# EAGLE library part TINY28* (library Atmel_AVR8)
MICROCONTROLLER 1.8 V 2 Kbytes FLASH
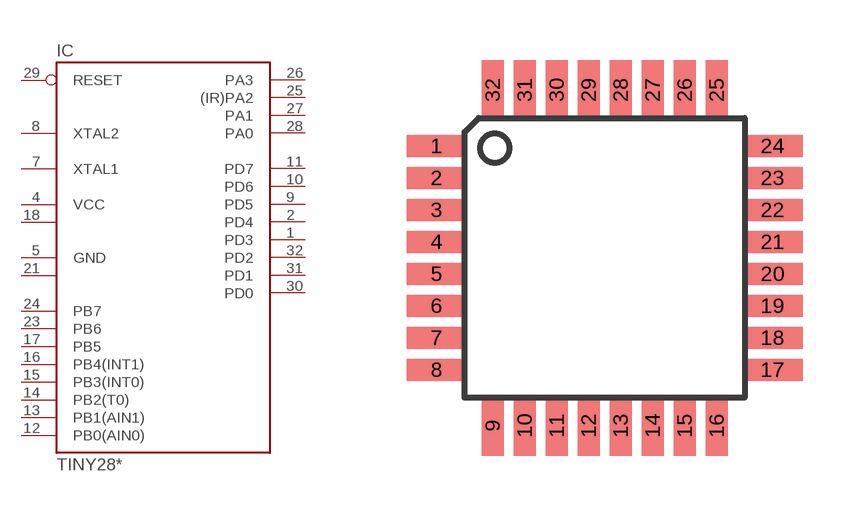
[diagram p18: symbol with the pads of 32A; footprint 32A]

Designator prefix IC

## TINY28LA (OC_FARNELL: unknown; OC_NEWARK: unknown), TINY28VA (OC_FARNELL: unknown; OC_NEWARK: unknown)  [32A]
1  PD3
2  PD4
3  NC1  nc
4  VCC  pwr
5  GND  pwr
6  NC2  nc
7  XTAL1
8  XTAL2
9  PD5
10  PD6
11  PD7
12  PB0(AIN0)  in
13  PB1(AIN1)  in
14  PB2(T0)  in
15  PB3(INT0)  in
16  PB4(INT1)  in
17  PB5  in
18  VCC1  pwr
19  NC3  nc
20  NC4  nc
21  GND1  pwr
22  NC5  nc
23  PB6  in
24  PB7  in
25  (IR)PA2  out
26  PA3
27  PA1
28  PA0
29  RESET  in
30  PD0
31  PD1
32  PD2

## Footprint 32A (pad centres in mm)
32-lead, 7 x 7 mm Body Size, 1.0 mm Body Thickness, 0.8 mm Lead Pitch, Thin Profile Plastic Quad Flat Package (TQFP) Atmel PCB Mounting Guidelines for Surface Mount Packages, Page 10 <http://www.atmel.com/images/atmel-8826-seeprom-pcb-mounting-guidelines-surface-mount-packages-applicationnote.pdf#page=10>
smd 1.5 x 0.55: 1 -4.2,2.8; 2 -4.2,2; 3 -4.2,1.2; 4 -4.2,0.4; 5 -4.2,-0.4; 6 -4.2,-1.2; 7 -4.2,-2; 8 -4.2,-2.8; 17 4.2,-2.8; 18 4.2,-2; 19 4.2,-1.2; 20 4.2,-0.4; 21 4.2,0.4; 22 4.2,1.2; 23 4.2,2; 24 4.2,2.8
smd 0.55 x 1.5: 9 -2.8,-4.2; 10 -2,-4.2; 11 -1.2,-4.2; 12 -0.4,-4.2; 13 0.4,-4.2; 14 1.2,-4.2; 15 2,-4.2; 16 2.8,-4.2; 25 2.8,4.2; 26 2,4.2; 27 1.2,4.2; 28 0.4,4.2; 29 -0.4,4.2; 30 -1.2,4.2; 31 -2,4.2; 32 -2.8,4.2